# Altium schematic symbol library DC309A.SCHLIB: 110 symbols (part 3 of 3)
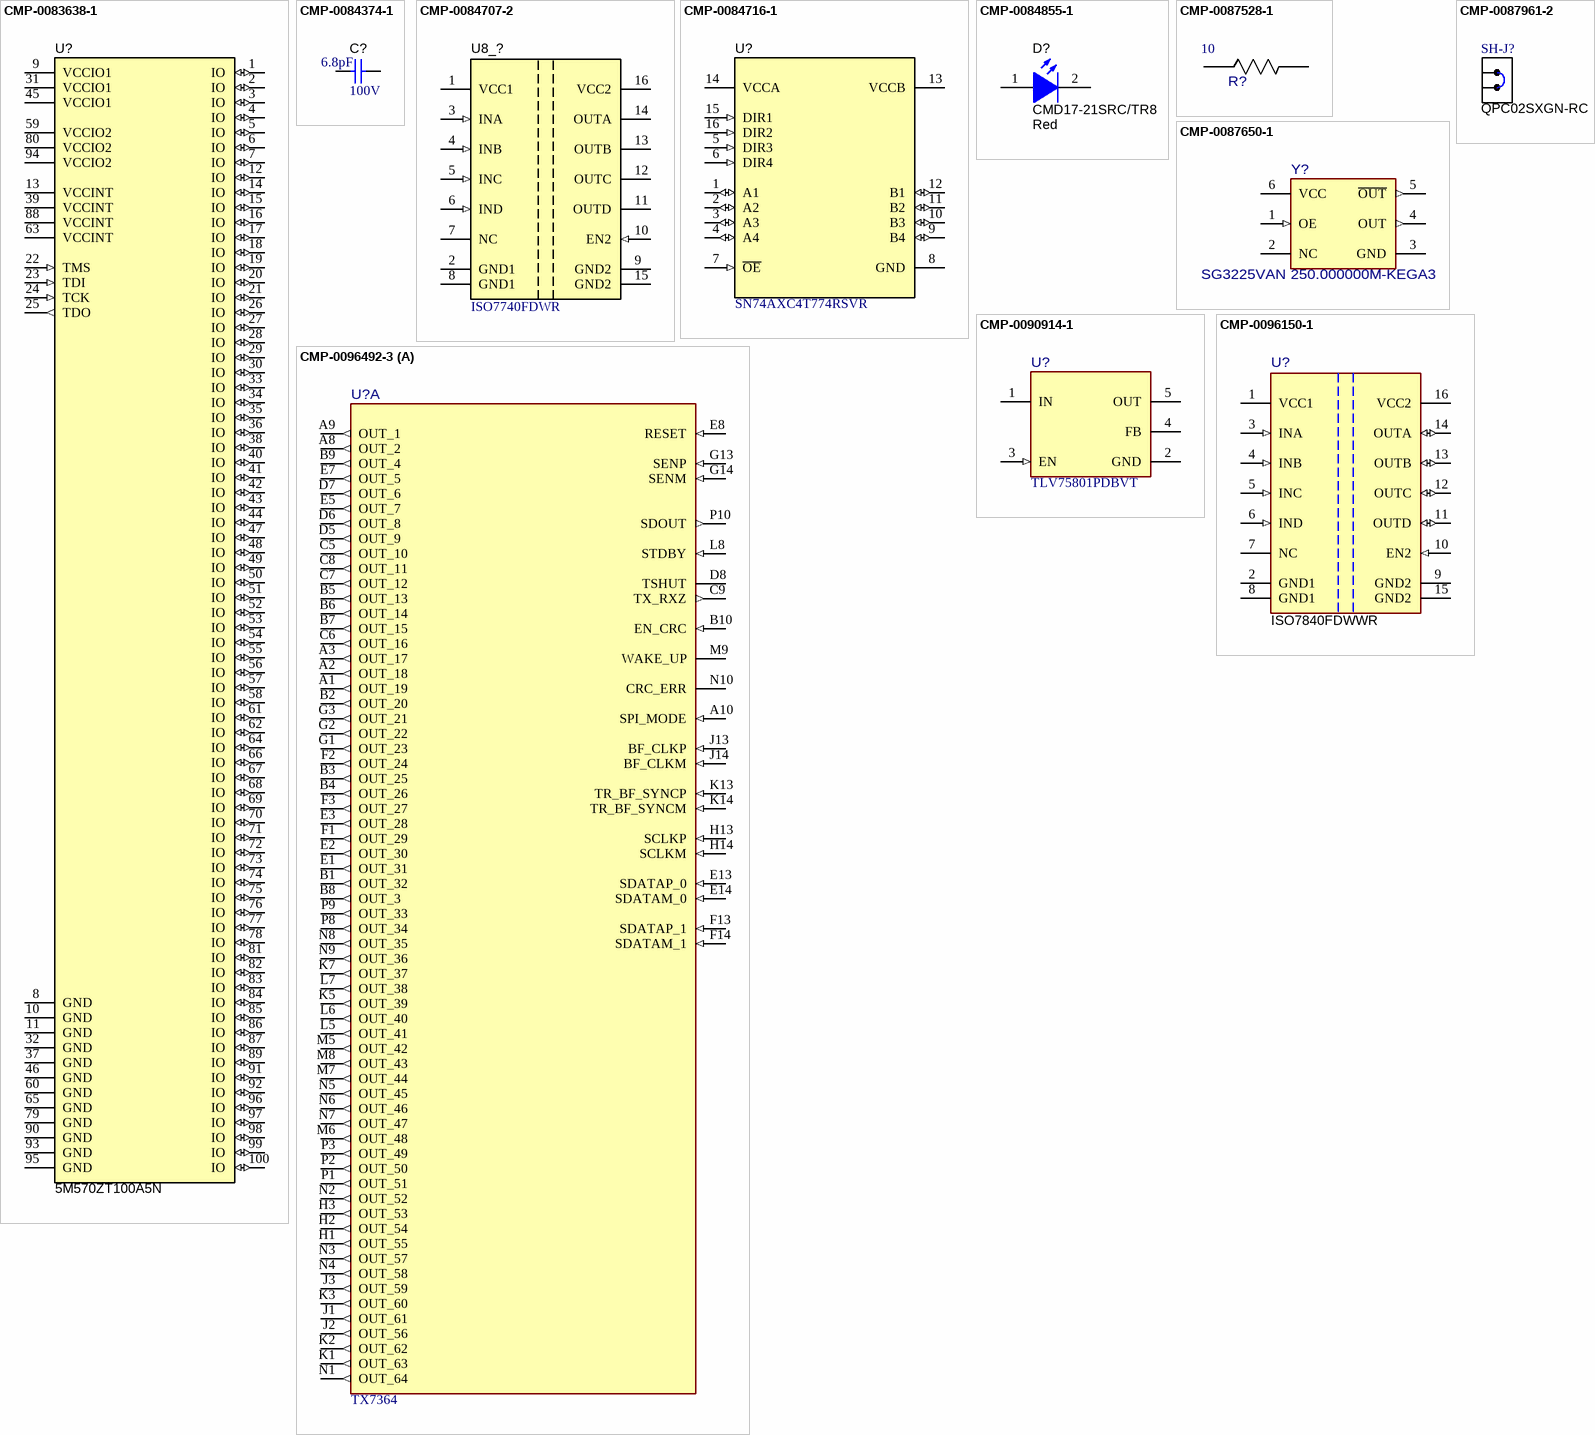
[diagram p6: symbols CMP-0083638-1 to CMP-0096492-3]

## CMP-0084716-1
designator U?, comment SN74AXC4T774RSVR
4 Bit Direction Controlled Level Translator, RSV0016A (UQFN-16); Manufacturer: Texas Instruments; SizeAreaWB_mm2: 10.08; SizeY_mm: 2.6; SizeArea_mm2: 4.68; CompType: IC; SizeZ_mm: 0.55; AEC Category: Q200; SizeX_mm: 1.8; AEC Qualified: N; PackageReference: RSV0016A; PartNumber: SN74AXC4T774RSVR; ComponentLink3Description: Online Datasheet; PackageDescription: UQFN-16; ComponentLink3URL: http://www.ti.com/product/sn74axc4t774/datasheet; MountType: SMT; ComponentLink1Description: Datasheet Link; ComponentLink2Description: Product Folder; ComponentLink1URL: http://www.ti.com/lit/ds/symlink/sn74axc4t774.pdf; Alternate Manufacturer: Texas Instruments; ComponentLink2URL: http://www.ti.com/product/sn74axc4t774
footprint RSV0016A (QFN, 16-Leads, Body 1.8x2.6mm, Pitch 0.4mm, TI Recommended)
pins: 1 A1 (io), 2 A2 (io), 3 A3 (io), 4 A4 (io), 5 DIR3 (in), 6 DIR4 (in), 7 ~{OE} (in), 8 GND (power), 9 B4 (io), 10 B3 (io), 11 B2 (io), 12 B1 (io), 13 VCCB (power), 14 VCCA (power), 15 DIR1 (in), 16 DIR2 (in)

## CMP-0084855-1
designator D?, comment CMD17-21SRC/TR8  value Red
LED, Red, SMD; Manufacturer: Visual Communications Company, LLC; SizeX_mm: 2; SizeArea_mm2: 2.5; SizeAreaWB_mm2: 6.75; Angle: 140; Value2: 1.7V; Ir_A: 100µA; Value1: 0.1W; SizeY_mm: 1.25; Io_A: 20mA; Tjmax_C: 85°C; Power_TotalModule: 100mW; SizeZ_mm: 1.2; Vr_V: 5V; ComponentLink1URL: https://vcclite.com/wp-content/uploads/wpallimport/files/files/CMD1721Seriesver3.pdf; ComponentLink1Description: Datasheet link; PackageReference: 2x1.25mm; Color: Red; PartNumber: CMD17-21SRC/TR8; Vf_V: 1.7V; RoHS: Y; MountType: SMT; Type: ?; CompType: LED
footprint CMD17-21_Red (SMD, 2-Leads, Body 2x1.25mm)
pins: 1 A, 2 K

## CMP-0087528-1
designator R?, comment Res_ohm: 10  (hidden comment: ERJ-3GEYJ100V)
Thick Film Resistors - SMD 0603 10ohms 5% AEC-Q200; Manufacturer: Panasonic; VDC_V: 75V; AEC Qualified: Yes; TempCo: 200ppm/°C; SizeZ_mm: 0.55mm; AEC Grade: Grade 0; Power_W: 100mW; Symbol Name: SYM-ERJ-3GEYJ100V; ComponentLink1Description: Datasheet; ComponentLink1URL: https://industrial.panasonic.com/cdbs/www-data/pdf/RDA0000/AOA0000C301.pdf; PackageReference: 0603; PartNumber: ERJ-3GEYJ100V; RoHS: TRUE; Technology: Thick Film; Tolerance_%: 5%
footprint FP-ERJ-3GEYJ100V_0603-MFG
footprint FP-ERJ-3GEYJ100V_0603-IPC_C
footprint FP-ERJ-3GEYJ100V_0603-IPC_B
footprint FP-ERJ-3GEYJ100V_0603-IPC_A
pins: 1, 2

## CMP-0087650-1
designator Y?, comment SG3225VAN 250.000000M-KEGA3
XTAL OSC XO 250.0000MHZ LVDS SMD; Manufacturer: EPSON; AEC Qualified: No; Frequency_Fixed: 250MHz; Symbol Name: SYM-SG3225VAN 250.000000M-KEGA3; SizeZ_mm: 1.2mm; ComponentLink1Description: Datasheet; RoHS: TRUE; PartNumber: SG3225VAN 250.000000M-KEGA3; ComponentLink1URL: https://support.epson.biz/td/api/doc_check.php?dl=brief_SG5032VAN&lang=en; PackageReference: XTAL_SMD_3MM2_2MM5
footprint FP-SG3225VAN 250.000000M-KEGA3_XTAL_SMD_3MM2_2MM5-MFG
pins: 1 OE (in), 2 NC, 3 GND (power), 4 OUT (out), 5 ~{OUT} (out), 6 VCC (power)

## CMP-0087961-2
designator SH-J?, comment QPC02SXGN-RC
CONN JUMPER S2 (1 x 2) Position Shunt Connector Black Open Top 0.100" (2.54mm) GoldHORTING .100" GOLD; Manufacturer: Sullins; Current_A: 3A; Symbol Name: SYM-QPC02SXGN-RC; RoHS: TRUE; PackageReference: JUMPER; PartNumber: QPC02SXGN-RC; ContactFinish: Gold; ComponentLink1URL: https://s3.amazonaws.com/catalogspreads-pdf/PAGE128-129%20.100%20JUMPER.pdf; ComponentLink1Description: Datasheet; PinCount: 2
footprint FP-QPC02SXGN-RC_JUMPER-MFG

## CMP-0090914-1
designator U?, comment TLV75801PDBVT
Linear Voltage Regulator IC  1 Output  500mA SOT-23-5; Manufacturer: Texas Instruments; Output Type: AdjustableProgrammable; Number Of Outputs: 1; Standoff Height: 0mm; TJmax_C: +125°C; Accuracy Percentage: 0.7%; SizeZ_mm: 1.45mm; AEC Qualified: No; Dropout Voltage: 720mV; Max Supply Voltage: 6V; Min Supply Voltage: 1.5V; Output Voltage: 0.55-5.5V; Nominal Supply Current: 25uA; datasheet: https://www.ti.com/lit/ds/symlink/tlv758p.pdf?ts=1600350480869&ref_url=https%253A%252F%252Fwww.ti.com%252Fproduct%252FTLV758P%253FkeyMatch%253DTLV75801PDBVT%2526tisearch%253DSearch-EN-everything%2526usecase%253DOPN; Part Number: TLV75801PDBVT; PackageReference: SOT-23-5; ComponentLink1URL: https://www.ti.com/lit/ds/symlink/tlv758p.pdf?ts=1600350480869&ref_url=https%253A%252F%252Fwww.ti.com%252Fproduct%252FTLV758P%253FkeyMatch%253DTLV75801PDBVT%2526tisearch%253DSearch-EN-everything%2526usecase%253DOPN; PartNumber: TLV75801PDBVT; Digikey Part Number: 296-TLV75801PDBVTCT-ND; Datasheet Path: datasheets/IC-TLV75801PDBVT.pdf; Lead Free: Yes; Mouser Part Number: 595-TLV75801PDBVT; Operating Temperature Range: -40°C to +125°C; Digikey Description: VOLTAGE COMPARATOR; helpURL: https://upverter.com/upn/revision/a517b52052e7a36b/; ComponentLink1Description: Datasheet; RoHS: TRUE
footprint DBV0005A-MFG
footprint DBV0005A-IPC_C
footprint DBV0005A-IPC_B
footprint DBV0005A-IPC_A
pins: 1 IN (power), 2 GND (power), 3 EN (in), 4 FB, 5 OUT (power)

## CMP-0096150-1
designator U?, comment ISO7840FDWWR
High-Performance, 8000-VPK Reinforced Quad-Channel Digital Isolator; Manufacturer: Texas Instruments; Interface: LVCMOS; AEC Qualified: No; TaMax_C: +125°C; Max Supply Voltage: 5.5V; TJmax_C: +150°C; TaMin_C: -55°C; Standoff Height: 0.1mm; SizeZ_mm: 2.65mm; Min Supply Voltage: 2.25V; PackageReference: SOIC16; PartNumber: ISO7840FDWWR; Part Number: ISO7840FDWWR; helpURL: https://upverter.com/upn/revision/f8abed5a6926f19d/; Lead Free: Yes; RoHS: TRUE; Digikey Part Number: 296-45223-1-ND; ComponentLink1URL: https://www.ti.com/lit/ds/symlink/iso7840.pdf; Mouser Part Number: 595-ISO7840FDWWR; Digikey Description: DGTL ISO 5700VRMS 4CH GP 16SOIC; ComponentLink1Description: Datasheet; datasheet: https://www.ti.com/lit/ds/symlink/iso7840.pdf; Datasheet Path: datasheets/IC-ISO7840FDWWR.pdf; Operating Temperature Range: -55°C to +125°C
footprint DWW0016A-MFG
footprint DWW0016A-IPC_C
footprint DWW0016A-IPC_B
footprint DWW0016A-IPC_A
pins: 1 VCC1 (power), 2 GND1 (power), 3 INA (in), 4 INB (in), 5 INC (in), 6 IND (in), 7 NC, 8 GND1 (power), 9 GND2 (power), 10 EN2 (in), 11 OUTD (io), 12 OUTC (io), 13 OUTB (io), 14 OUTA (io), 15 GND2 (power), 16 VCC2 (power)

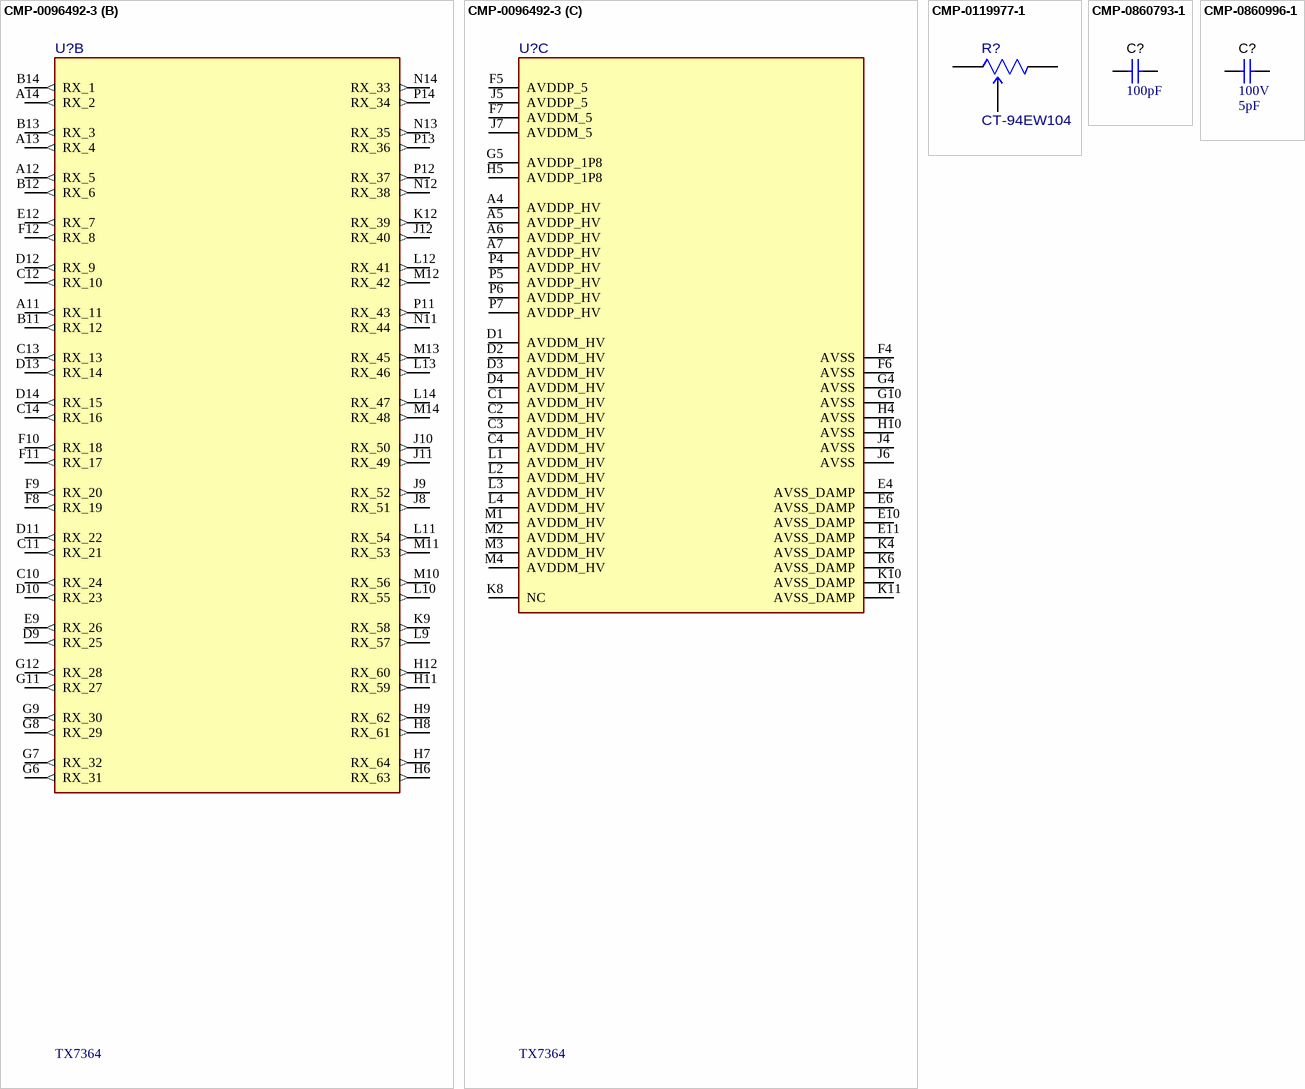
[diagram p4: symbols CMP-0096492-3 to CMP-0860996-1]

## CMP-0096492-3
designator U?, comment TX7364
Manufacturer: Texas Instruments; CompType: IC; AEC Category: Q200; Standoff Height: 0.293mm; SizeZ_mm: 1.321mm; ComponentLink1Description: Datasheet Link; Part Number: TX7364; PartNumber: TX7364; ComponentLink2URL: http://www.ti.com/product/GPN; Operating Temperature Range: to; ComponentLink3URL: http://www.ti.com/product/GPN/datasheet; Datasheet Path: datasheets/IC-TX7364.pdf; ComponentLink3Description: Online Datasheet; ComponentLink1URL: http://www.ti.com/lit/ds/symlink/GPN.pdf; ComponentLink2Description: Product Folder; helpURL: https://upverter.com/upn/revision/116a209f64e0270f/; PackageReference: FCBGA196; RoHS: UNKNOWN; PartId: 1
footprint ACP0196A-MFG
footprint ACP0196A-IPC_C
footprint ACP0196A-IPC_B
footprint ACP0196A-IPC_A
part A pins: A1 OUT_19 (out), A2 OUT_18 (out), A3 OUT_17 (out), A8 OUT_2 (out), A9 OUT_1 (out), A10 SPI_MODE (in), B1 OUT_32 (out), B2 OUT_20 (out), B3 OUT_25 (out), B4 OUT_26 (out), B5 OUT_13 (out), B6 OUT_14 (out), B7 OUT_15 (out), B8 OUT_3 (out), B9 OUT_4 (out), B10 EN_CRC (in), C5 OUT_10 (out), C6 OUT_16 (out), C7 OUT_12 (out), C8 OUT_11 (out), C9 TX_RXZ (out), D5 OUT_9 (out), D6 OUT_8 (out), D7 OUT_6 (out), D8 TSHUT, E1 OUT_31 (out), E2 OUT_30 (out), E3 OUT_28 (out), E5 OUT_7 (out), E7 OUT_5 (out), E8 RESET (in), E13 SDATAP_0 (in), E14 SDATAM_0 (in), F1 OUT_29 (out), F2 OUT_24 (out), F3 OUT_27 (out), F13 SDATAP_1 (in), F14 SDATAM_1 (in), G1 OUT_23 (out), G2 OUT_22 (out), G3 OUT_21 (out), G13 SENP (in), G14 SENM (in), H1 OUT_55 (out), H2 OUT_54 (out), H3 OUT_53 (out), H13 SCLKP (in), H14 SCLKM (in), J1 OUT_61 (out), J2 OUT_56 (out), J3 OUT_59 (out), J13 BF_CLKP (in), J14 BF_CLKM (in), K1 OUT_63 (out), K2 OUT_62 (out), K3 OUT_60 (out), K5 OUT_39 (out), K7 OUT_37 (out), K13 TR_BF_SYNCP (in), K14 TR_BF_SYNCM (in), L5 OUT_41 (out), L6 OUT_40 (out), L7 OUT_38 (out), L8 STDBY (in), M5 OUT_42 (out), M6 OUT_48 (out), M7 OUT_44 (out), M8 OUT_43 (out), M9 WAKE_UP, N1 OUT_64 (out), N2 OUT_52 (out), N3 OUT_57 (out), N4 OUT_58 (out), N5 OUT_45 (out), N6 OUT_46 (out), N7 OUT_47 (out), N8 OUT_35 (out), N9 OUT_36 (out), N10 CRC_ERR, P1 OUT_51 (out), P2 OUT_50 (out), P3 OUT_49 (out), P8 OUT_34 (out), P9 OUT_33 (out), P10 SDOUT (out)
part B pins: A11 RX_11 (out), A12 RX_5 (out), A13 RX_4 (out), A14 RX_2 (out), B11 RX_12 (out), B12 RX_6 (out), B13 RX_3 (out), B14 RX_1 (out), C10 RX_24 (out), C11 RX_21 (out), C12 RX_10 (out), C13 RX_13 (out), C14 RX_16 (out), D9 RX_25 (out), D10 RX_23 (out), D11 RX_22 (out), D12 RX_9 (out), D13 RX_14 (out), D14 RX_15 (out), E9 RX_26 (out), E12 RX_7 (out), F8 RX_19 (out), F9 RX_20 (out), F10 RX_18 (out), F11 RX_17 (out), F12 RX_8 (out), G6 RX_31 (out), G7 RX_32 (out), G8 RX_29 (out), G9 RX_30 (out), G11 RX_27 (out), G12 RX_28 (out), H6 RX_63 (out), H7 RX_64 (out), H8 RX_61 (out), H9 RX_62 (out), H11 RX_59 (out), H12 RX_60 (out), J8 RX_51 (out), J9 RX_52 (out), J10 RX_50 (out), J11 RX_49 (out), J12 RX_40 (out), K9 RX_58 (out), K12 RX_39 (out), L9 RX_57 (out), L10 RX_55 (out), L11 RX_54 (out), L12 RX_41 (out), L13 RX_46 (out), L14 RX_47 (out), M10 RX_56 (out), M11 RX_53 (out), M12 RX_42 (out), M13 RX_45 (out), M14 RX_48 (out), N11 RX_44 (out), N12 RX_38 (out), N13 RX_35 (out), N14 RX_33 (out), P11 RX_43 (out), P12 RX_37 (out), P13 RX_36 (out), P14 RX_34 (out)
part C pins: A4 AVDDP_HV (power), A5 AVDDP_HV (power), A6 AVDDP_HV (power), A7 AVDDP_HV (power), C1 AVDDM_HV (power), C2 AVDDM_HV (power), C3 AVDDM_HV (power), C4 AVDDM_HV (power), D1 AVDDM_HV (power), D2 AVDDM_HV (power), D3 AVDDM_HV (power), D4 AVDDM_HV (power), E4 AVSS_DAMP (power), E6 AVSS_DAMP (power), E10 AVSS_DAMP (power), E11 AVSS_DAMP (power), F4 AVSS (power), F5 AVDDP_5 (power), F6 AVSS (power), F7 AVDDM_5 (power), G4 AVSS (power), G5 AVDDP_1P8 (power), G10 AVSS (power), H4 AVSS (power), H5 AVDDP_1P8 (power), H10 AVSS (power), J4 AVSS (power), J5 AVDDP_5 (power), J6 AVSS (power), J7 AVDDM_5 (power), K4 AVSS_DAMP (power), K6 AVSS_DAMP (power), K8 NC, K10 AVSS_DAMP (power), K11 AVSS_DAMP (power), L1 AVDDM_HV (power), L2 AVDDM_HV (power), L3 AVDDM_HV (power), L4 AVDDM_HV (power), M1 AVDDM_HV (power), M2 AVDDM_HV (power), M3 AVDDM_HV (power), M4 AVDDM_HV (power), P4 AVDDP_HV (power), P5 AVDDP_HV (power), P6 AVDDP_HV (power), P7 AVDDP_HV (power)

## CMP-0119977-1
designator R?, comment CT-94EW104
100 kOhms 0.5W, 1/2W PC Pins Through Hole Trimmer Potentiometer Cermet 18.0 Turn Top Adjustment; Manufacturer: Nidec Components; SizeZ_mm: 11.3mm; Value: 100kΩ; AEC Qualified: No; TempCo: 100ppm/°C; Tolerance_%: 10%; VDC_V: 300V; PackageReference: PTH_POTEN_9MM6_4MM8; PartNumber: CT-94EW104; RoHS: TRUE; Part Number: CT-94EW104; datasheet: https://www.nidec-components.com/e/catalog/trimmer/ct-94.pdf; Datasheet Path: datasheets/Res-CT-94EW104.pdf; Digikey Description: TRIMMER 100K OHM 0.5W PC PIN TOP; Digikey Part Number: 563-CT-94EW104-ND; helpURL: https://upverter.com/upn/revision/b7c3f4141cf1048a/; Lead Free: Yes; Mouser Part Number: 229-CT-94EW104; Operating Temperature Range: -55°C to +125°C; Power_W: 0.5W; Res_ohm: 100kΩ; Series: CT-94; Technology: Cermet; ComponentLink1Description: Datasheet; ComponentLink1URL: https://www.nidec-components.com/e/catalog/trimmer/ct-94.pdf
footprint FP-CT-94EW104_PTH_POTEN_9MM6_4MM8-MFG
pins: 1, 2, 3

## CMP-0860793-1
designator C?, comment ValueDisplayed: 100pF  (hidden comment: AC0603JRNPOYBN101)
CAP, CERM, 100 pF, 250 V,+/- 5%, C0G/NP0, AEC-Q200 Grade 1, 0603; Manufacturer: Yageo; Polarized: N; CompType: Capacitor; Value: 100pF; U/M: EA; VDC_V: 250V; TaMin_C: -55°C; TaMax_C: 125°C; Cap_Case: 0603; SizeArea_mm2: 1.28; SizeAreaWB_mm2: 4.68; SizeX_mm: 1.6; SizeY_mm: 0.8; SizeZ_mm: 1; AEC Category: Q200; AEC Qualified: Y; PartNumber: AC0603JRNPOYBN101; PackageReference: 0603; RoHS: Y; Cap_F: 100pF; Tolerance_%: 5%; Value2: 250V; MountType: SMT; Technology: Ceramic; TempCo: C0G/NP0; ComponentLink1Description: Datasheet link; ComponentLink1URL: http://www.yageo.com/documents/recent/UPY-AC_NP0X7R_16V-to-630V_12.pdf; AEC Grade: 1
footprint 0603 (0603 from SM-752 data)
footprint 0603M (0603 from SM-752 data)
footprint 0603L (0603 from SM-752 data)
footprint 0603_HV (Ernesto recommended land pattern.  26 mil between pads.)
footprint 0603S
pins: 1, 2

## CMP-0860996-1
designator C?, comment VDC_V: 100V  ValueDisplayed: 5pF  (hidden comment: CBR04C509B1GAC)
CAP, CERM, 5 pF, 100 V,+/- 2%, C0G/NP0, 0402; Manufacturer: Kemet; SizeZ_mm: 0.6; SizeX_mm: 1; AEC Category: Q200; U/M: EA; TaMin_C: -55°C; SizeY_mm: 0.5; Cap_Case: 0402; CompType: Capacitor; AEC Qualified: N; TaMax_C: 125°C; SizeAreaWB_mm2: 3; Value: 5pF; Tolerance_%: 2%; TempCo: C0G/NP0; RoHS: Y; Technology: Ceramic; Value2: 100V; ComponentLink1URL: https://content.kemet.com/datasheets/KEM_C1030_CBR_SMD.pdf; PackageReference: 0402; SizeArea_mm2: 0.5; AEC Grade: N/A; PartNumber: CBR04C509B1GAC; Polarized: N; Cap_F: 5pF; MountType: SMT; ComponentLink1Description: Datasheet link
footprint 0402 (0402 from SM-752 data)
footprint 0402M (0402 from SM-752 data)
footprint 0402L (0402 from SM-752 data)
footprint 0402S (Based on C0402S footprint from PADS legacy)
pins: 1, 2